# Altium integrated library TI_Logic_Specialty_Logic.IntLib: 2504 symbols (part 5 of 81)
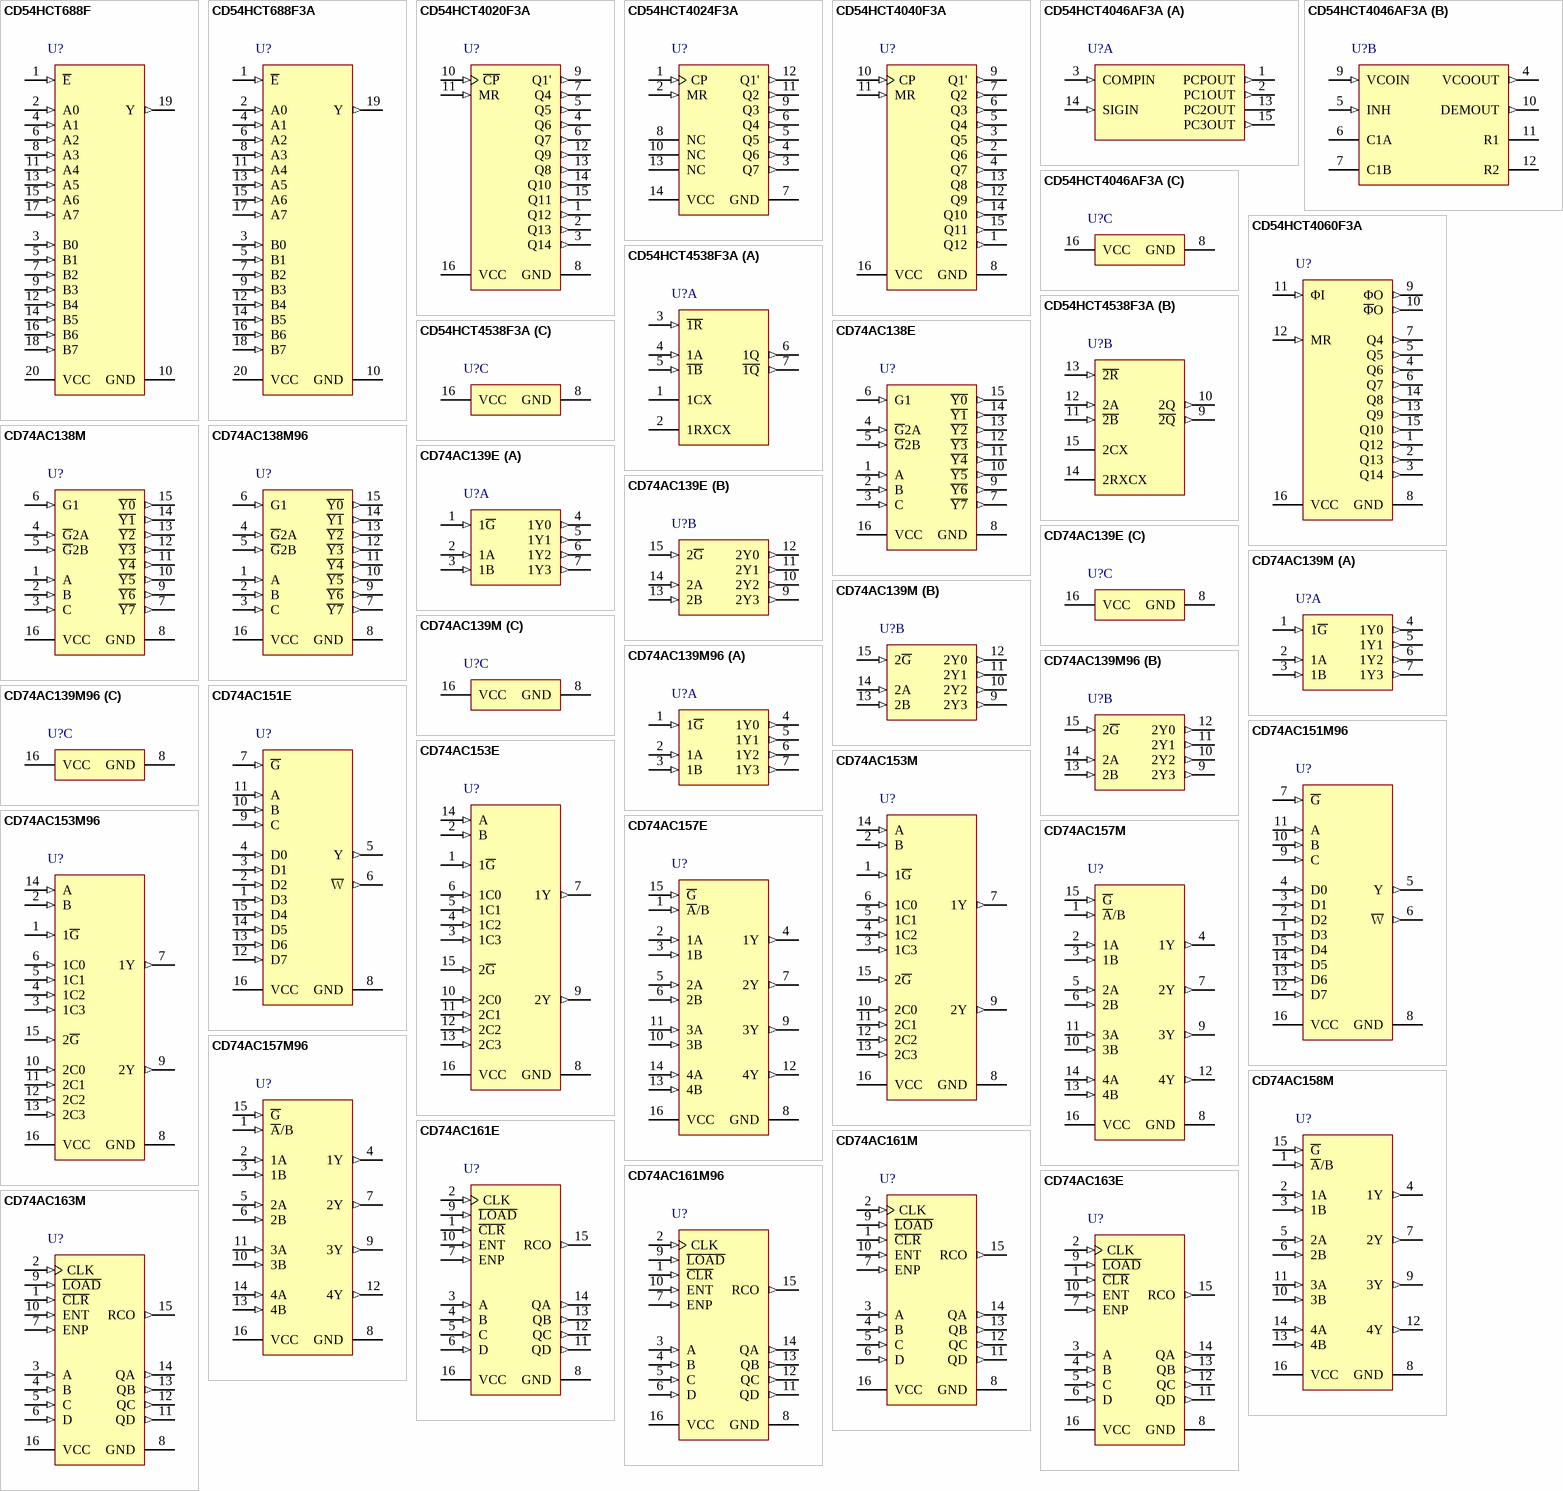
[diagram p108: symbols CD54HCT688F to CD74AC163M]

## CD54HCT4020F3A
designator U?
High Speed CMOS Logic 14-Stage Binary Counter, J0016A, TUBE; Generic Part Number: CD54HCT4020; Manufacturer: Texas Instruments; PartNumber: CD54HCT4020F3A; VCC(Min)(V): 4.5; VCC(Max)(V): 5.5; Inputs: 1; ICC @ Nom Voltage(Max)(mA): 0.08; Bits(#): 14; F @ Nom Voltage(Max)(Mhz): 25; Rating: Military; Technology Family: HCT; Output Drive (IOL/IOH)(Max)(mA): 4/-4; tpd @ Nom Voltage(Max)(ns): 50; DatasheetVersion: SCHS201C; PackageReference: J0016A; Function: Counter; Operating Temperature Range(C): -55 to 125; Type: Binary; ComponentLink1Description: Manufacturer URL; ComponentLink1URL: http://www.ti.com/; ComponentLink2Description: Datasheet; ComponentLink2URL: http://www.ti.com/lit/ds/symlink/cd54hct4020.pdf; ComponentLink3Description: Package Specification; ComponentLink3URL: http://www.ti.com/lit/ml/mcer002d/mcer002d.pdf
footprint J0016A (DIP, 16-Leads, Body 21.35x7.2mm, Pitch 2.54mm)
pins: 1 Q12 (out), 2 Q13 (out), 3 Q14 (out), 4 Q6 (out), 5 Q5 (out), 6 Q7 (out), 7 Q4 (out), 8 GND (power), 9 Q1' (out), 10 ~{CP} (in), 11 MR (in), 12 Q9 (out), 13 Q8 (out), 14 Q10 (out), 15 Q11 (out), 16 VCC (power)

## CD54HCT4024F3A
designator U?
High Speed CMOS Logic 7-Stage Binary Ripple Counter, J0014A, TUBE; Generic Part Number: CD54HCT4024; Manufacturer: Texas Instruments; PartNumber: CD54HCT4024F3A; VCC(Min)(V): 4.5; VCC(Max)(V): 5.5; Inputs: 1; ICC @ Nom Voltage(Max)(mA): 0.08; Bits(#): 7; F @ Nom Voltage(Max)(Mhz): 25; Rating: Military; Technology Family: HCT; Output Drive (IOL/IOH)(Max)(mA): 4/-4; tpd @ Nom Voltage(Max)(ns): 50; DatasheetVersion: SCHS202C; PackageReference: J0014A; Function: Counter; Operating Temperature Range(C): -55 to 125; Type: Binary; ComponentLink1Description: Manufacturer URL; ComponentLink1URL: http://www.ti.com/; ComponentLink2Description: Datasheet; ComponentLink2URL: http://www.ti.com/lit/ds/symlink/cd54hct4024.pdf; ComponentLink3Description: Package Specification; ComponentLink3URL: http://www.ti.com/lit/ml/mcer002d/mcer002d.pdf
footprint J0014A (DIP, 14-Leads, Body 19.95x7.2mm, Pitch 2.54mm)
pins: 1 CP (in), 2 MR (in), 3 Q7 (out), 4 Q6 (out), 5 Q5 (out), 6 Q4 (out), 7 GND (power), 8 NC, 9 Q3 (out), 10 NC, 11 Q2 (out), 12 Q1' (out), 13 NC, 14 VCC (power)

## CD54HCT4040F3A
designator U?
High Speed CMOS Logic 12-Stage Binary Counter, J0016A, TUBE; Generic Part Number: CD54HCT4040; Manufacturer: Texas Instruments; PartNumber: CD54HCT4040F3A; VCC(Min)(V): 4.5; VCC(Max)(V): 5.5; Inputs: 1; ICC @ Nom Voltage(Max)(mA): 0.08; Bits(#): 12; F @ Nom Voltage(Max)(Mhz): 25; Rating: Military; Technology Family: HCT; Output Drive (IOL/IOH)(Max)(mA): 4/-4; tpd @ Nom Voltage(Max)(ns): 50; DatasheetVersion: SCHS203D; PackageReference: J0016A; Function: Counter; Operating Temperature Range(C): -55 to 125; Type: Binary; ComponentLink1Description: Manufacturer URL; ComponentLink1URL: http://www.ti.com/; ComponentLink2Description: Datasheet; ComponentLink2URL: http://www.ti.com/lit/ds/symlink/cd54hct4040.pdf; ComponentLink3Description: Package Specification; ComponentLink3URL: http://www.ti.com/lit/ml/mcer002d/mcer002d.pdf
footprint J0016A (DIP, 16-Leads, Body 21.35x7.2mm, Pitch 2.54mm)
pins: 1 Q12 (out), 2 Q6 (out), 3 Q5 (out), 4 Q7 (out), 5 Q4 (out), 6 Q3 (out), 7 Q2 (out), 8 GND (power), 9 Q1' (out), 10 CP (in), 11 MR (in), 12 Q9 (out), 13 Q8 (out), 14 Q10 (out), 15 Q11 (out), 16 VCC (power)

## CD54HCT4046AF3A
designator U?
High Speed CMOS Logic Phase-Locked-Loop with VCO, J0016A, TUBE; Generic Part Number: CD54HCT4046A; Manufacturer: Texas Instruments; PartNumber: CD54HCT4046AF3A; VCC(Min)(V): 4.5; VCC(Max)(V): 5.5; ICC @ Nom Voltage(Max)(mA): 0.08; Input Type: TTL; Rating: Military; Technology Family: HCT; Output Drive (IOL/IOH)(Max)(mA): 4/-4; tpd @ Nom Voltage(Max)(ns): 85; DatasheetVersion: SCHS204J; PackageReference: J0016A; Output Type: CMOS; Operating Temperature Range(C): -55 to 125; Voltage(Nom)(V): 4.5; ComponentLink1Description: Manufacturer URL; ComponentLink1URL: http://www.ti.com/; ComponentLink2Description: Datasheet; ComponentLink2URL: http://www.ti.com/lit/ds/symlink/cd54hct4046a.pdf
footprint J0016A (DIP, 16-Leads, Body 21.35x7.2mm, Pitch 2.54mm)
part A pins: 1 PCPOUT (out) "Phase comparator pulse output", 2 PC1OUT (out) "Phase comparator 1 output", 3 COMPIN (in) "Comparator input", 13 PC2OUT (hiz) "Phase comparator 2 output", 14 SIGIN (in) "Signal input", 15 PC3OUT (out) "Phase comparator 3 output"
part B pins: 4 VCOOUT (out) "VCO output", 5 INH (in) "Inhibit input", 6 C1A "Capacitor C1 connection A", 7 C1B "Capacitor C1 connection B", 9 VCOIN (in) "VCO input", 10 DEMOUT (out) "Demodulator output", 11 R1 "Resistor R1 connection", 12 R2 "Resistor R2 connection"
part C pins: 8 GND (power) "Ground (0 V)", 16 VCC (power) "Positive supply voltage"

## CD54HCT4060F3A
designator U?
High Speed CMOS Logic 14-Stage Binary Counter with Oscillator, J0016A, TUBE; Generic Part Number: CD54HCT4060; Manufacturer: Texas Instruments; PartNumber: CD54HCT4060F3A; VCC(Min)(V): 4.5; VCC(Max)(V): 5.5; Inputs: 1; ICC @ Nom Voltage(Max)(mA): 0.08; Bits(#): 14; F @ Nom Voltage(Max)(Mhz): 25; Rating: Military; Technology Family: HCT; Output Drive (IOL/IOH)(Max)(mA): 4/-4; tpd @ Nom Voltage(Max)(ns): 84; DatasheetVersion: SCHS207G; PackageReference: J0016A; Function: Counter; Operating Temperature Range(C): -55 to 125; Type: Binary; ComponentLink1Description: Manufacturer URL; ComponentLink1URL: http://www.ti.com/; ComponentLink2Description: Datasheet; ComponentLink2URL: http://www.ti.com/lit/ds/symlink/cd54hct4060.pdf; ComponentLink3Description: Package Specification; ComponentLink3URL: http://www.ti.com/lit/ml/mcer002d/mcer002d.pdf
footprint J0016A (DIP, 16-Leads, Body 21.35x7.2mm, Pitch 2.54mm)
pins: 1 Q12 (out), 2 Q13 (out), 3 Q14 (out), 4 Q6 (out), 5 Q5 (out), 6 Q7 (out), 7 Q4 (out), 8 GND (power), 9 ΦO (out), 10 ~{Φ}O (out), 11 ΦI (in), 12 MR (in), 13 Q9 (out), 14 Q8 (out), 15 Q10 (out), 16 VCC (power)

## CD54HCT4538F3A
designator U?
High Speed CMOS Logic Dual Retriggerable Precision Monostable Multivibrator, J0016A, TUBE; Generic Part Number: CD54HCT4538; Manufacturer: Texas Instruments; PartNumber: CD54HCT4538F3A; Rating: Military; Technology Family: HCT; DatasheetVersion: SCHS123E; PackageReference: J0016A; Operating Temperature Range(C): -55 to 125; ComponentLink1Description: Manufacturer URL; ComponentLink1URL: http://www.ti.com/; ComponentLink2Description: Datasheet; ComponentLink2URL: http://www.ti.com/lit/ds/symlink/cd54hct4538.pdf; ComponentLink3Description: Package Specification; ComponentLink3URL: http://www.ti.com/lit/ml/mcer002d/mcer002d.pdf
footprint J0016A (DIP, 16-Leads, Body 21.35x7.2mm, Pitch 2.54mm)
part A pins: 1 1CX, 2 1RXCX, 3 ~{1R} (in), 4 1A (in), 5 ~{1B} (in), 6 1Q (out), 7 ~{1Q} (out)
part B pins: 9 ~{2Q} (out), 10 2Q (out), 11 ~{2B} (in), 12 2A (in), 13 ~{2R} (in), 14 2RXCX, 15 2CX
part C pins: 8 GND (power), 16 VCC (power)

## CD74AC138E
designator U?
3-Line to 8-Line Inverting Decoders/Demultiplexers, N0016A, TUBE; Generic Part Number: CD74AC138; Manufacturer: Texas Instruments; PartNumber: CD74AC138E; VCC(Min)(V): 1.5; VCC(Max)(V): 5.5; Output Type: CMOS; Function: Decoder/Demultiplexer; ICC @ Nom Voltage(Max)(mA): 0.08; Input Type: LVTTL/CMOS; Bits(#): 8; F @ Nom Voltage(Max)(Mhz): 100; Configuration: 3：8; Channels(#): 1; Rating: Catalog; Technology Family: AC; Voltage(Nom)(V): 1.5, 3.3,5; Schmitt Trigger: No; Output Drive (IOL/IOH)(Max)(mA): 24/-24; tpd @ Nom Voltage(Max)(ns): 138,15.4,11; DatasheetVersion: SCHS328A; PackageReference: N0016A; Supplier 1: Mouser; Supplier Part Number 1: 595-CD74AC138E; Supplier 2: Digi-Key; Supplier Part Number 2: 296-4225-5-ND; Operating Temperature Range(C): -55 to 125; Type: Standard; Code_JEDEC: MS-001; ComponentLink1Description: Manufacturer URL; ComponentLink1URL: http://www.ti.com/; ComponentLink2Description: Datasheet; ComponentLink2URL: http://www.ti.com/lit/ds/symlink/cd74ac138.pdf; ComponentLink3Description: Package Specification; ComponentLink3URL: http://www.ti.com/lit/ml/mpdi002c/mpdi002c.pdf
footprint N0016A (DIP, 16-Leads, Body 19.7x6.6mm, Pitch 2.54mm)
pins: 1 A (in), 2 B (in), 3 C (in), 4 ~{G}2A (in), 5 ~{G}2B (in), 6 G1 (in), 7 ~{Y7} (out), 8 GND (power), 9 ~{Y6} (out), 10 ~{Y5} (out), 11 ~{Y4} (out), 12 ~{Y3} (out), 13 ~{Y2} (out), 14 ~{Y1} (out), 15 ~{Y0} (out), 16 VCC (power)

## CD74AC138M
designator U?
3-Line to 8-Line Inverting Decoders/Demultiplexers, D0016A, TUBE; Generic Part Number: CD74AC138; Manufacturer: Texas Instruments; PartNumber: CD74AC138M; VCC(Min)(V): 1.5; VCC(Max)(V): 5.5; Output Type: CMOS; Function: Decoder/Demultiplexer; ICC @ Nom Voltage(Max)(mA): 0.08; Input Type: LVTTL/CMOS; Bits(#): 8; F @ Nom Voltage(Max)(Mhz): 100; Configuration: 3：8; Channels(#): 1; Rating: Catalog; Technology Family: AC; Voltage(Nom)(V): 1.5, 3.3,5; Schmitt Trigger: No; Output Drive (IOL/IOH)(Max)(mA): 24/-24; tpd @ Nom Voltage(Max)(ns): 138,15.4,11; DatasheetVersion: SCHS328A; PackageReference: D0016A; Supplier 1: Mouser; Supplier Part Number 1: 595-CD74AC138M; Supplier 2: Digi-Key; Supplier Part Number 2: 296-4226-5-ND; Operating Temperature Range(C): -55 to 125; Type: Standard; Code_JEDEC: MS-012 variation AC; ComponentLink1Description: Manufacturer URL; ComponentLink1URL: http://www.ti.com/; ComponentLink2Description: Datasheet; ComponentLink2URL: http://www.ti.com/lit/ds/symlink/cd74ac138.pdf; ComponentLink3Description: Package Specification; ComponentLink3URL: http://www.ti.com/lit/ml/mpds178g/mpds178g.pdf
footprint D0016A_N (SOIC, 16-Leads, Body 10x4mm, Pitch 1.27mm, IPC Medium Density)
footprint D0016A_M (SOIC, 16-Leads, Body 10x4mm, Pitch 1.27mm, IPC Low Density)
footprint D0016A_L (SOIC, 16-Leads, Body 10x4mm, Pitch 1.27mm, IPC High Density)
pins: 1 A (in), 2 B (in), 3 C (in), 4 ~{G}2A (in), 5 ~{G}2B (in), 6 G1 (in), 7 ~{Y7} (out), 8 GND (power), 9 ~{Y6} (out), 10 ~{Y5} (out), 11 ~{Y4} (out), 12 ~{Y3} (out), 13 ~{Y2} (out), 14 ~{Y1} (out), 15 ~{Y0} (out), 16 VCC (power)

## CD74AC138M96
designator U?
3-Line to 8-Line Inverting Decoders/Demultiplexers, D0016A, LARGE T&R; Generic Part Number: CD74AC138; Manufacturer: Texas Instruments; PartNumber: CD74AC138M96; VCC(Min)(V): 1.5; VCC(Max)(V): 5.5; Output Type: CMOS; Function: Decoder/Demultiplexer; ICC @ Nom Voltage(Max)(mA): 0.08; Input Type: LVTTL/CMOS; Bits(#): 8; F @ Nom Voltage(Max)(Mhz): 100; Configuration: 3：8; Channels(#): 1; Rating: Catalog; Technology Family: AC; Voltage(Nom)(V): 1.5, 3.3,5; Schmitt Trigger: No; Output Drive (IOL/IOH)(Max)(mA): 24/-24; tpd @ Nom Voltage(Max)(ns): 138,15.4,11; DatasheetVersion: SCHS328A; PackageReference: D0016A; Supplier 1: Mouser; Supplier Part Number 1: 595-CD74AC138M96; Supplier 2: Digi-Key; Supplier Part Number 2: 296-25961-2-ND; Supplier 3: Digi-Key; Supplier Part Number 3: 296-25961-1-ND; Supplier 4: Digi-Key; Supplier Part Number 4: 296-25961-6-ND; Operating Temperature Range(C): -55 to 125; Type: Standard; Code_JEDEC: MS-012 variation AC; ComponentLink1Description: Manufacturer URL; ComponentLink1URL: http://www.ti.com/; ComponentLink2Description: Datasheet; ComponentLink2URL: http://www.ti.com/lit/ds/symlink/cd74ac138.pdf; ComponentLink3Description: Package Specification; ComponentLink3URL: http://www.ti.com/lit/ml/mpds178g/mpds178g.pdf
footprint D0016A_N (SOIC, 16-Leads, Body 10x4mm, Pitch 1.27mm, IPC Medium Density)
footprint D0016A_M (SOIC, 16-Leads, Body 10x4mm, Pitch 1.27mm, IPC Low Density)
footprint D0016A_L (SOIC, 16-Leads, Body 10x4mm, Pitch 1.27mm, IPC High Density)
pins: 1 A (in), 2 B (in), 3 C (in), 4 ~{G}2A (in), 5 ~{G}2B (in), 6 G1 (in), 7 ~{Y7} (out), 8 GND (power), 9 ~{Y6} (out), 10 ~{Y5} (out), 11 ~{Y4} (out), 12 ~{Y3} (out), 13 ~{Y2} (out), 14 ~{Y1} (out), 15 ~{Y0} (out), 16 VCC (power)

## CD74AC139E
designator U?
Dual 2-to-4 Line Decoder/Demultiplexer, N0016A, TUBE; Generic Part Number: CD74AC139; Manufacturer: Texas Instruments; PartNumber: CD74AC139E; VCC(Min)(V): 1.5; VCC(Max)(V): 5.5; Output Type: CMOS; ICC @ Nom Voltage(Max)(mA): 0.08; Input Type: LVTTL/CMOS; Bits(#): 4; F @ Nom Voltage(Max)(Mhz): 100; Configuration: 2：4; Channels(#): 2; Rating: Catalog; Technology Family: AC; Voltage(Nom)(V): 1.5, 3.3,5; Schmitt Trigger: No; Output Drive (IOL/IOH)(Max)(mA): 24/-24; tpd @ Nom Voltage(Max)(ns): 131,14.7,10.5; DatasheetVersion: SCHS332; PackageReference: N0016A; Supplier 1: Mouser; Supplier Part Number 1: 595-CD74AC139E; Supplier 2: Digi-Key; Supplier Part Number 2: 296-32945-5-ND; Function: Decoder/Demultiplexer; Operating Temperature Range(C): -55 to 125; Type: Standard; Code_JEDEC: MS-001; ComponentLink1Description: Manufacturer URL; ComponentLink1URL: http://www.ti.com/; ComponentLink2Description: Datasheet; ComponentLink2URL: http://www.ti.com/lit/ds/symlink/cd74ac139.pdf; ComponentLink3Description: Package Specification; ComponentLink3URL: http://www.ti.com/lit/ml/mpdi002c/mpdi002c.pdf
footprint N0016A (DIP, 16-Leads, Body 19.7x6.6mm, Pitch 2.54mm)
part A pins: 1 1~{G} (in), 2 1A (in), 3 1B (in), 4 1Y0 (out), 5 1Y1 (out), 6 1Y2 (out), 7 1Y3 (out)
part B pins: 9 2Y3 (out), 10 2Y2 (out), 11 2Y1 (out), 12 2Y0 (out), 13 2B (in), 14 2A (in), 15 2~{G} (in)
part C pins: 8 GND (power), 16 VCC (power)

## CD74AC139M
designator U?
Dual 2-to-4 Line Decoder/Demultiplexer, D0016A, TUBE; Generic Part Number: CD74AC139; Manufacturer: Texas Instruments; PartNumber: CD74AC139M; VCC(Min)(V): 1.5; VCC(Max)(V): 5.5; Output Type: CMOS; ICC @ Nom Voltage(Max)(mA): 0.08; Input Type: LVTTL/CMOS; Bits(#): 4; F @ Nom Voltage(Max)(Mhz): 100; Configuration: 2：4; Channels(#): 2; Rating: Catalog; Technology Family: AC; Voltage(Nom)(V): 1.5, 3.3,5; Schmitt Trigger: No; Output Drive (IOL/IOH)(Max)(mA): 24/-24; tpd @ Nom Voltage(Max)(ns): 131,14.7,10.5; DatasheetVersion: SCHS332; PackageReference: D0016A; Supplier 1: Mouser; Supplier Part Number 1: 595-CD74AC139M; Supplier 2: Digi-Key; Supplier Part Number 2: 296-32946-5-ND; Function: Decoder/Demultiplexer; Operating Temperature Range(C): -55 to 125; Type: Standard; Code_JEDEC: MS-012 variation AC; ComponentLink1Description: Manufacturer URL; ComponentLink1URL: http://www.ti.com/; ComponentLink2Description: Datasheet; ComponentLink2URL: http://www.ti.com/lit/ds/symlink/cd74ac139.pdf; ComponentLink3Description: Package Specification; ComponentLink3URL: http://www.ti.com/lit/ml/mpds178g/mpds178g.pdf
footprint D0016A_N (SOIC, 16-Leads, Body 10x4mm, Pitch 1.27mm, IPC Medium Density)
footprint D0016A_M (SOIC, 16-Leads, Body 10x4mm, Pitch 1.27mm, IPC Low Density)
footprint D0016A_L (SOIC, 16-Leads, Body 10x4mm, Pitch 1.27mm, IPC High Density)
part A pins: 1 1~{G} (in), 2 1A (in), 3 1B (in), 4 1Y0 (out), 5 1Y1 (out), 6 1Y2 (out), 7 1Y3 (out)
part B pins: 9 2Y3 (out), 10 2Y2 (out), 11 2Y1 (out), 12 2Y0 (out), 13 2B (in), 14 2A (in), 15 2~{G} (in)
part C pins: 8 GND (power), 16 VCC (power)

## CD74AC139M96
designator U?
Dual 2-to-4 Line Decoder/Demultiplexer, D0016A, LARGE T&R; Generic Part Number: CD74AC139; Manufacturer: Texas Instruments; PartNumber: CD74AC139M96; VCC(Min)(V): 1.5; VCC(Max)(V): 5.5; Output Type: CMOS; ICC @ Nom Voltage(Max)(mA): 0.08; Input Type: LVTTL/CMOS; Bits(#): 4; F @ Nom Voltage(Max)(Mhz): 100; Configuration: 2：4; Channels(#): 2; Rating: Catalog; Technology Family: AC; Voltage(Nom)(V): 1.5, 3.3,5; Schmitt Trigger: No; Output Drive (IOL/IOH)(Max)(mA): 24/-24; tpd @ Nom Voltage(Max)(ns): 131,14.7,10.5; DatasheetVersion: SCHS332; PackageReference: D0016A; Supplier 1: Mouser; Supplier Part Number 1: 595-CD74AC139M96; Supplier 2: Digi-Key; Supplier Part Number 2: 296-4227-2-ND; Supplier 3: Digi-Key; Supplier Part Number 3: 296-4227-1-ND; Supplier 4: Digi-Key; Supplier Part Number 4: 296-4227-6-ND; Function: Decoder/Demultiplexer; Operating Temperature Range(C): -55 to 125; Type: Standard; Code_JEDEC: MS-012 variation AC; ComponentLink1Description: Manufacturer URL; ComponentLink1URL: http://www.ti.com/; ComponentLink2Description: Datasheet; ComponentLink2URL: http://www.ti.com/lit/ds/symlink/cd74ac139.pdf; ComponentLink3Description: Package Specification; ComponentLink3URL: http://www.ti.com/lit/ml/mpds178g/mpds178g.pdf
footprint D0016A_N (SOIC, 16-Leads, Body 10x4mm, Pitch 1.27mm, IPC Medium Density)
footprint D0016A_M (SOIC, 16-Leads, Body 10x4mm, Pitch 1.27mm, IPC Low Density)
footprint D0016A_L (SOIC, 16-Leads, Body 10x4mm, Pitch 1.27mm, IPC High Density)
part A pins: 1 1~{G} (in), 2 1A (in), 3 1B (in), 4 1Y0 (out), 5 1Y1 (out), 6 1Y2 (out), 7 1Y3 (out)
part B pins: 9 2Y3 (out), 10 2Y2 (out), 11 2Y1 (out), 12 2Y0 (out), 13 2B (in), 14 2A (in), 15 2~{G} (in)
part C pins: 8 GND (power), 16 VCC (power)

## CD74AC151E
designator U?
8-Input Multiplexer, N0016A, TUBE; Generic Part Number: CD74AC151; Manufacturer: Texas Instruments; PartNumber: CD74AC151E; VCC(Min)(V): 1.5; VCC(Max)(V): 5.5; Output Type: CMOS; Function: Encoder/Multiplexer; ICC @ Nom Voltage(Max)(mA): 0.08; Input Type: LVTTL/CMOS; Bits(#): 8; F @ Nom Voltage(Max)(Mhz): 100; Configuration: 8：1; Channels(#): 1; Rating: Catalog; Technology Family: AC; Voltage(Nom)(V): 1.5, 3.3,5; Schmitt Trigger: No; Output Drive (IOL/IOH)(Max)(mA): 24/-24; tpd @ Nom Voltage(Max)(ns): 169,18.9,13.5; DatasheetVersion: SCHS333; PackageReference: N0016A; Supplier 1: Mouser; Supplier Part Number 1: 595-CD74AC151E; Supplier 2: Digi-Key; Supplier Part Number 2: 296-32948-5-ND; Operating Temperature Range(C): -55 to 125; Type: Standard; Code_JEDEC: MS-001; ComponentLink1Description: Manufacturer URL; ComponentLink1URL: http://www.ti.com/; ComponentLink2Description: Datasheet; ComponentLink2URL: http://www.ti.com/lit/ds/symlink/cd74ac151.pdf; ComponentLink3Description: Package Specification; ComponentLink3URL: http://www.ti.com/lit/ml/mpdi002c/mpdi002c.pdf
footprint N0016A (DIP, 16-Leads, Body 19.7x6.6mm, Pitch 2.54mm)
pins: 1 D3 (in), 2 D2 (in), 3 D1 (in), 4 D0 (in), 5 Y (out), 6 ~{W} (out), 7 ~{G} (in), 8 GND (power), 9 C (in), 10 B (in), 11 A (in), 12 D7 (in), 13 D6 (in), 14 D5 (in), 15 D4 (in), 16 VCC (power)

## CD74AC151M96
designator U?
8-Input Multiplexer, D0016A, LARGE T&R; Generic Part Number: CD74AC151; Manufacturer: Texas Instruments; PartNumber: CD74AC151M96; VCC(Min)(V): 1.5; VCC(Max)(V): 5.5; Output Type: CMOS; Function: Encoder/Multiplexer; ICC @ Nom Voltage(Max)(mA): 0.08; Input Type: LVTTL/CMOS; Bits(#): 8; F @ Nom Voltage(Max)(Mhz): 100; Configuration: 8：1; Channels(#): 1; Rating: Catalog; Technology Family: AC; Voltage(Nom)(V): 1.5, 3.3,5; Schmitt Trigger: No; Output Drive (IOL/IOH)(Max)(mA): 24/-24; tpd @ Nom Voltage(Max)(ns): 169,18.9,13.5; DatasheetVersion: SCHS333; PackageReference: D0016A; Supplier 1: Mouser; Supplier Part Number 1: 595-CD74AC151M96; Supplier 2: Digi-Key; Supplier Part Number 2: 296-4228-2-ND; Supplier 3: Digi-Key; Supplier Part Number 3: 296-4228-1-ND; Supplier 4: Digi-Key; Supplier Part Number 4: 296-4228-6-ND; Operating Temperature Range(C): -55 to 125; Type: Standard; Code_JEDEC: MS-012 variation AC; ComponentLink1Description: Manufacturer URL; ComponentLink1URL: http://www.ti.com/; ComponentLink2Description: Datasheet; ComponentLink2URL: http://www.ti.com/lit/ds/symlink/cd74ac151.pdf; ComponentLink3Description: Package Specification; ComponentLink3URL: http://www.ti.com/lit/ml/mpds178g/mpds178g.pdf
footprint D0016A_N (SOIC, 16-Leads, Body 10x4mm, Pitch 1.27mm, IPC Medium Density)
footprint D0016A_M (SOIC, 16-Leads, Body 10x4mm, Pitch 1.27mm, IPC Low Density)
footprint D0016A_L (SOIC, 16-Leads, Body 10x4mm, Pitch 1.27mm, IPC High Density)
pins: 1 D3 (in), 2 D2 (in), 3 D1 (in), 4 D0 (in), 5 Y (out), 6 ~{W} (out), 7 ~{G} (in), 8 GND (power), 9 C (in), 10 B (in), 11 A (in), 12 D7 (in), 13 D6 (in), 14 D5 (in), 15 D4 (in), 16 VCC (power)

## CD74AC153E
designator U?
Dual 4-Input Multiplexers, N0016A, TUBE; Generic Part Number: CD74AC153; Manufacturer: Texas Instruments; PartNumber: CD74AC153E; VCC(Min)(V): 1.5; VCC(Max)(V): 5.5; Output Type: CMOS; Function: Encoder/Multiplexer; ICC @ Nom Voltage(Max)(mA): 0.08; Input Type: LVTTL/CMOS; Bits(#): 4; F @ Nom Voltage(Max)(Mhz): 100; Configuration: 4：1; Channels(#): 2; Rating: Catalog; Technology Family: AC; Voltage(Nom)(V): 1.5, 3.3,5; Schmitt Trigger: No; Output Drive (IOL/IOH)(Max)(mA): 24/-24; tpd @ Nom Voltage(Max)(ns): 250,28,20; DatasheetVersion: SCHS334A; PackageReference: N0016A; Supplier 1: Mouser; Supplier Part Number 1: 595-CD74AC153E; Supplier 2: Digi-Key; Supplier Part Number 2: 296-32949-5-ND; Operating Temperature Range(C): -55 to 125; Type: Standard; Code_JEDEC: MS-001; ComponentLink1Description: Manufacturer URL; ComponentLink1URL: http://www.ti.com/; ComponentLink2Description: Datasheet; ComponentLink2URL: http://www.ti.com/lit/ds/symlink/cd74ac153.pdf; ComponentLink3Description: Package Specification; ComponentLink3URL: http://www.ti.com/lit/ml/mpdi002c/mpdi002c.pdf
footprint N0016A (DIP, 16-Leads, Body 19.7x6.6mm, Pitch 2.54mm)
pins: 1 1~{G} (in), 2 B (in), 3 1C3 (in), 4 1C2 (in), 5 1C1 (in), 6 1C0 (in), 7 1Y (out), 8 GND (power), 9 2Y (out), 10 2C0 (in), 11 2C1 (in), 12 2C2 (in), 13 2C3 (in), 14 A (in), 15 2~{G} (in), 16 VCC (power)

## CD74AC153M
designator U?
Dual 4-Input Multiplexers, D0016A, TUBE; Generic Part Number: CD74AC153; Manufacturer: Texas Instruments; PartNumber: CD74AC153M; VCC(Min)(V): 1.5; VCC(Max)(V): 5.5; Output Type: CMOS; Function: Encoder/Multiplexer; ICC @ Nom Voltage(Max)(mA): 0.08; Input Type: LVTTL/CMOS; Bits(#): 4; F @ Nom Voltage(Max)(Mhz): 100; Configuration: 4：1; Channels(#): 2; Rating: Catalog; Technology Family: AC; Voltage(Nom)(V): 1.5, 3.3,5; Schmitt Trigger: No; Output Drive (IOL/IOH)(Max)(mA): 24/-24; tpd @ Nom Voltage(Max)(ns): 250,28,20; DatasheetVersion: SCHS334A; PackageReference: D0016A; Supplier 1: Mouser; Supplier Part Number 1: 595-CD74AC153M; Supplier 2: Digi-Key; Supplier Part Number 2: 296-32950-5-ND; Operating Temperature Range(C): -55 to 125; Type: Standard; Code_JEDEC: MS-012 variation AC; ComponentLink1Description: Manufacturer URL; ComponentLink1URL: http://www.ti.com/; ComponentLink2Description: Datasheet; ComponentLink2URL: http://www.ti.com/lit/ds/symlink/cd74ac153.pdf; ComponentLink3Description: Package Specification; ComponentLink3URL: http://www.ti.com/lit/ml/mpds178g/mpds178g.pdf
footprint D0016A_N (SOIC, 16-Leads, Body 10x4mm, Pitch 1.27mm, IPC Medium Density)
footprint D0016A_M (SOIC, 16-Leads, Body 10x4mm, Pitch 1.27mm, IPC Low Density)
footprint D0016A_L (SOIC, 16-Leads, Body 10x4mm, Pitch 1.27mm, IPC High Density)
pins: 1 1~{G} (in), 2 B (in), 3 1C3 (in), 4 1C2 (in), 5 1C1 (in), 6 1C0 (in), 7 1Y (out), 8 GND (power), 9 2Y (out), 10 2C0 (in), 11 2C1 (in), 12 2C2 (in), 13 2C3 (in), 14 A (in), 15 2~{G} (in), 16 VCC (power)

## CD74AC153M96
designator U?
Dual 4-Input Multiplexers, D0016A, LARGE T&R; Generic Part Number: CD74AC153; Manufacturer: Texas Instruments; PartNumber: CD74AC153M96; VCC(Min)(V): 1.5; VCC(Max)(V): 5.5; Output Type: CMOS; Function: Encoder/Multiplexer; ICC @ Nom Voltage(Max)(mA): 0.08; Input Type: LVTTL/CMOS; Bits(#): 4; F @ Nom Voltage(Max)(Mhz): 100; Configuration: 4：1; Channels(#): 2; Rating: Catalog; Technology Family: AC; Voltage(Nom)(V): 1.5, 3.3,5; Schmitt Trigger: No; Output Drive (IOL/IOH)(Max)(mA): 24/-24; tpd @ Nom Voltage(Max)(ns): 250,28,20; DatasheetVersion: SCHS334A; PackageReference: D0016A; Supplier 1: Mouser; Supplier Part Number 1: 595-CD74AC153M96; Supplier 2: Digi-Key; Supplier Part Number 2: 296-4229-2-ND; Supplier 3: Digi-Key; Supplier Part Number 3: 296-4229-1-ND; Supplier 4: Digi-Key; Supplier Part Number 4: 296-4229-6-ND; Operating Temperature Range(C): -55 to 125; Type: Standard; Code_JEDEC: MS-012 variation AC; ComponentLink1Description: Manufacturer URL; ComponentLink1URL: http://www.ti.com/; ComponentLink2Description: Datasheet; ComponentLink2URL: http://www.ti.com/lit/ds/symlink/cd74ac153.pdf; ComponentLink3Description: Package Specification; ComponentLink3URL: http://www.ti.com/lit/ml/mpds178g/mpds178g.pdf
footprint D0016A_N (SOIC, 16-Leads, Body 10x4mm, Pitch 1.27mm, IPC Medium Density)
footprint D0016A_M (SOIC, 16-Leads, Body 10x4mm, Pitch 1.27mm, IPC Low Density)
footprint D0016A_L (SOIC, 16-Leads, Body 10x4mm, Pitch 1.27mm, IPC High Density)
pins: 1 1~{G} (in), 2 B (in), 3 1C3 (in), 4 1C2 (in), 5 1C1 (in), 6 1C0 (in), 7 1Y (out), 8 GND (power), 9 2Y (out), 10 2C0 (in), 11 2C1 (in), 12 2C2 (in), 13 2C3 (in), 14 A (in), 15 2~{G} (in), 16 VCC (power)

## CD74AC157E
designator U?
Quad 2-Input Non-Inverting Multiplexers, N0016A, TUBE; Generic Part Number: CD74AC157; Manufacturer: Texas Instruments; PartNumber: CD74AC157E; VCC(Min)(V): 1.5; VCC(Max)(V): 5.5; Output Type: CMOS; Function: Encoder/Multiplexer; ICC @ Nom Voltage(Max)(mA): 0.08; Input Type: LVTTL/CMOS; Bits(#): 2; F @ Nom Voltage(Max)(Mhz): 100; Configuration: 2：1; Channels(#): 4; Rating: Catalog; Technology Family: AC; Voltage(Nom)(V): 1.5, 3.3,5; Schmitt Trigger: No; Output Drive (IOL/IOH)(Max)(mA): 24/-24; tpd @ Nom Voltage(Max)(ns): 106,11.9,8.5; DatasheetVersion: SCHS335; PackageReference: N0016A; Supplier 1: Mouser; Supplier Part Number 1: 595-CD74AC157E; Supplier 2: Digi-Key; Supplier Part Number 2: 296-4230-5-ND; Operating Temperature Range(C): -55 to 125; Type: Standard; Code_JEDEC: MS-001; ComponentLink1Description: Manufacturer URL; ComponentLink1URL: http://www.ti.com/; ComponentLink2Description: Datasheet; ComponentLink2URL: http://www.ti.com/lit/ds/symlink/cd74ac157.pdf; ComponentLink3Description: Package Specification; ComponentLink3URL: http://www.ti.com/lit/ml/mpdi002c/mpdi002c.pdf
footprint N0016A (DIP, 16-Leads, Body 19.7x6.6mm, Pitch 2.54mm)
pins: 1 ~{A}/B (in), 2 1A (in), 3 1B (in), 4 1Y (out), 5 2A (in), 6 2B (in), 7 2Y (out), 8 GND (power), 9 3Y (out), 10 3B (in), 11 3A (in), 12 4Y (out), 13 4B (in), 14 4A (in), 15 ~{G} (in), 16 VCC (power)

## CD74AC157M
designator U?
Quad 2-Input Non-Inverting Multiplexers, D0016A, TUBE; Generic Part Number: CD74AC157; Manufacturer: Texas Instruments; PartNumber: CD74AC157M; VCC(Min)(V): 1.5; VCC(Max)(V): 5.5; Output Type: CMOS; Function: Encoder/Multiplexer; ICC @ Nom Voltage(Max)(mA): 0.08; Input Type: LVTTL/CMOS; Bits(#): 2; F @ Nom Voltage(Max)(Mhz): 100; Configuration: 2：1; Channels(#): 4; Rating: Catalog; Technology Family: AC; Voltage(Nom)(V): 1.5, 3.3,5; Schmitt Trigger: No; Output Drive (IOL/IOH)(Max)(mA): 24/-24; tpd @ Nom Voltage(Max)(ns): 106,11.9,8.5; DatasheetVersion: SCHS335; PackageReference: D0016A; Supplier 1: Mouser; Supplier Part Number 1: 595-CD74AC157M; Supplier 2: Digi-Key; Supplier Part Number 2: 296-4231-5-ND; Operating Temperature Range(C): -55 to 125; Type: Standard; Code_JEDEC: MS-012 variation AC; ComponentLink1Description: Manufacturer URL; ComponentLink1URL: http://www.ti.com/; ComponentLink2Description: Datasheet; ComponentLink2URL: http://www.ti.com/lit/ds/symlink/cd74ac157.pdf; ComponentLink3Description: Package Specification; ComponentLink3URL: http://www.ti.com/lit/ml/mpds178g/mpds178g.pdf
footprint D0016A_N (SOIC, 16-Leads, Body 10x4mm, Pitch 1.27mm, IPC Medium Density)
footprint D0016A_M (SOIC, 16-Leads, Body 10x4mm, Pitch 1.27mm, IPC Low Density)
footprint D0016A_L (SOIC, 16-Leads, Body 10x4mm, Pitch 1.27mm, IPC High Density)
pins: 1 ~{A}/B (in), 2 1A (in), 3 1B (in), 4 1Y (out), 5 2A (in), 6 2B (in), 7 2Y (out), 8 GND (power), 9 3Y (out), 10 3B (in), 11 3A (in), 12 4Y (out), 13 4B (in), 14 4A (in), 15 ~{G} (in), 16 VCC (power)

## CD74AC157M96
designator U?
Quad 2-Input Non-Inverting Multiplexers, D0016A, LARGE T&R; Generic Part Number: CD74AC157; Manufacturer: Texas Instruments; PartNumber: CD74AC157M96; VCC(Min)(V): 1.5; VCC(Max)(V): 5.5; Output Type: CMOS; Function: Encoder/Multiplexer; ICC @ Nom Voltage(Max)(mA): 0.08; Input Type: LVTTL/CMOS; Bits(#): 2; F @ Nom Voltage(Max)(Mhz): 100; Configuration: 2：1; Channels(#): 4; Rating: Catalog; Technology Family: AC; Voltage(Nom)(V): 1.5, 3.3,5; Schmitt Trigger: No; Output Drive (IOL/IOH)(Max)(mA): 24/-24; tpd @ Nom Voltage(Max)(ns): 106,11.9,8.5; DatasheetVersion: SCHS335; PackageReference: D0016A; Supplier 1: Mouser; Supplier Part Number 1: 595-CD74AC157M96; Supplier 2: Digi-Key; Supplier Part Number 2: CD74AC157M96-ND; Operating Temperature Range(C): -55 to 125; Type: Standard; Code_JEDEC: MS-012 variation AC; ComponentLink1Description: Manufacturer URL; ComponentLink1URL: http://www.ti.com/; ComponentLink2Description: Datasheet; ComponentLink2URL: http://www.ti.com/lit/ds/symlink/cd74ac157.pdf; ComponentLink3Description: Package Specification; ComponentLink3URL: http://www.ti.com/lit/ml/mpds178g/mpds178g.pdf
footprint D0016A_N (SOIC, 16-Leads, Body 10x4mm, Pitch 1.27mm, IPC Medium Density)
footprint D0016A_M (SOIC, 16-Leads, Body 10x4mm, Pitch 1.27mm, IPC Low Density)
footprint D0016A_L (SOIC, 16-Leads, Body 10x4mm, Pitch 1.27mm, IPC High Density)
pins: 1 ~{A}/B (in), 2 1A (in), 3 1B (in), 4 1Y (out), 5 2A (in), 6 2B (in), 7 2Y (out), 8 GND (power), 9 3Y (out), 10 3B (in), 11 3A (in), 12 4Y (out), 13 4B (in), 14 4A (in), 15 ~{G} (in), 16 VCC (power)

## CD74AC158M
designator U?
Quad 2-Input Inverting Multiplexers, D0016A, TUBE; Generic Part Number: CD74AC158; Manufacturer: Texas Instruments; PartNumber: CD74AC158M; VCC(Min)(V): 1.5; VCC(Max)(V): 5.5; Output Type: CMOS; Function: Encoder/Multiplexer; ICC @ Nom Voltage(Max)(mA): 0.08; Input Type: LVTTL/CMOS; Bits(#): 2; F @ Nom Voltage(Max)(Mhz): 100; Configuration: 2：1; Channels(#): 4; Rating: Catalog; Technology Family: AC; Voltage(Nom)(V): 1.5, 3.3,5; Schmitt Trigger: No; Output Drive (IOL/IOH)(Max)(mA): 24/-24; tpd @ Nom Voltage(Max)(ns): 100,11.2,8; DatasheetVersion: SCHS336; PackageReference: D0016A; Supplier 1: Mouser; Supplier Part Number 1: 595-CD74AC158M; Supplier 2: Digi-Key; Supplier Part Number 2: CD74AC158M-ND; Operating Temperature Range(C): -55 to 125; Type: Standard; Code_JEDEC: MS-012 variation AC; ComponentLink1Description: Manufacturer URL; ComponentLink1URL: http://www.ti.com/; ComponentLink2Description: Datasheet; ComponentLink2URL: http://www.ti.com/lit/ds/symlink/cd74ac158.pdf; ComponentLink3Description: Package Specification; ComponentLink3URL: http://www.ti.com/lit/ml/mpds178g/mpds178g.pdf
footprint D0016A_N (SOIC, 16-Leads, Body 10x4mm, Pitch 1.27mm, IPC Medium Density)
footprint D0016A_M (SOIC, 16-Leads, Body 10x4mm, Pitch 1.27mm, IPC Low Density)
footprint D0016A_L (SOIC, 16-Leads, Body 10x4mm, Pitch 1.27mm, IPC High Density)
pins: 1 ~{A}/B (in), 2 1A (in), 3 1B (in), 4 1Y (out), 5 2A (in), 6 2B (in), 7 2Y (out), 8 GND (power), 9 3Y (out), 10 3B (in), 11 3A (in), 12 4Y (out), 13 4B (in), 14 4A (in), 15 ~{G} (in), 16 VCC (power)

## CD74AC161E
designator U?
Synchronous Presettable Binary Counters with Asynchronous Reset, N0016A, TUBE; Generic Part Number: CD74AC161; Manufacturer: Texas Instruments; PartNumber: CD74AC161E; VCC(Min)(V): 1.5; VCC(Max)(V): 5.5; Output Type: CMOS; Inputs: 4; ICC @ Nom Voltage(Max)(mA): 0.08; Input Type: LVTTL/CMOS; F @ Nom Voltage(Max)(Mhz): 100; Rating: Catalog; Technology Family: AC; Voltage(Nom)(V): 3.3,5; Schmitt Trigger: No; Output Drive (IOL/IOH)(Max)(mA): 24/-24; tpd @ Nom Voltage(Max)(ns): 15; DatasheetVersion: SCHS239C; PackageReference: N0016A; Supplier 1: Mouser; Supplier Part Number 1: 595-CD74AC161E; Supplier 2: Digi-Key; Supplier Part Number 2: 296-32951-5-ND; Function: Counter; Bits(#): 4; Operating Temperature Range(C): -55 to 125; Type: Binary; Code_JEDEC: MS-001; ComponentLink1Description: Manufacturer URL; ComponentLink1URL: http://www.ti.com/; ComponentLink2Description: Datasheet; ComponentLink2URL: http://www.ti.com/lit/ds/symlink/cd74ac161.pdf; ComponentLink3Description: Package Specification; ComponentLink3URL: http://www.ti.com/lit/ml/mpdi002c/mpdi002c.pdf
footprint N0016A (DIP, 16-Leads, Body 19.7x6.6mm, Pitch 2.54mm)
pins: 1 ~{CLR} (in), 2 CLK (in), 3 A (in), 4 B (in), 5 C (in), 6 D (in), 7 ENP (in), 8 GND (power), 9 ~{LOAD} (in), 10 ENT (in), 11 QD (out), 12 QC (out), 13 QB (out), 14 QA (out), 15 RCO (out), 16 VCC (power)

## CD74AC161M
designator U?
Synchronous Presettable Binary Counters with Asynchronous Reset, D0016A, TUBE; Generic Part Number: CD74AC161; Manufacturer: Texas Instruments; PartNumber: CD74AC161M; VCC(Min)(V): 1.5; VCC(Max)(V): 5.5; Output Type: CMOS; Inputs: 4; ICC @ Nom Voltage(Max)(mA): 0.08; Input Type: LVTTL/CMOS; F @ Nom Voltage(Max)(Mhz): 100; Rating: Catalog; Technology Family: AC; Voltage(Nom)(V): 3.3,5; Schmitt Trigger: No; Output Drive (IOL/IOH)(Max)(mA): 24/-24; tpd @ Nom Voltage(Max)(ns): 15; DatasheetVersion: SCHS239C; PackageReference: D0016A; Supplier 1: Mouser; Supplier Part Number 1: 595-CD74AC161M; Supplier 2: Digi-Key; Supplier Part Number 2: 296-4232-5-ND; Function: Counter; Bits(#): 4; Operating Temperature Range(C): -55 to 125; Type: Binary; Code_JEDEC: MS-012 variation AC; ComponentLink1Description: Manufacturer URL; ComponentLink1URL: http://www.ti.com/; ComponentLink2Description: Datasheet; ComponentLink2URL: http://www.ti.com/lit/ds/symlink/cd74ac161.pdf; ComponentLink3Description: Package Specification; ComponentLink3URL: http://www.ti.com/lit/ml/mpds178g/mpds178g.pdf
footprint D0016A_N (SOIC, 16-Leads, Body 10x4mm, Pitch 1.27mm, IPC Medium Density)
footprint D0016A_M (SOIC, 16-Leads, Body 10x4mm, Pitch 1.27mm, IPC Low Density)
footprint D0016A_L (SOIC, 16-Leads, Body 10x4mm, Pitch 1.27mm, IPC High Density)
pins: 1 ~{CLR} (in), 2 CLK (in), 3 A (in), 4 B (in), 5 C (in), 6 D (in), 7 ENP (in), 8 GND (power), 9 ~{LOAD} (in), 10 ENT (in), 11 QD (out), 12 QC (out), 13 QB (out), 14 QA (out), 15 RCO (out), 16 VCC (power)

## CD74AC161M96
designator U?
Synchronous Presettable Binary Counters with Asynchronous Reset, D0016A, LARGE T&R; Generic Part Number: CD74AC161; Manufacturer: Texas Instruments; PartNumber: CD74AC161M96; VCC(Min)(V): 1.5; VCC(Max)(V): 5.5; Output Type: CMOS; Inputs: 4; ICC @ Nom Voltage(Max)(mA): 0.08; Input Type: LVTTL/CMOS; F @ Nom Voltage(Max)(Mhz): 100; Rating: Catalog; Technology Family: AC; Voltage(Nom)(V): 3.3,5; Schmitt Trigger: No; Output Drive (IOL/IOH)(Max)(mA): 24/-24; tpd @ Nom Voltage(Max)(ns): 15; DatasheetVersion: SCHS239C; PackageReference: D0016A; Supplier 1: Mouser; Supplier Part Number 1: 595-CD74AC161M96; Supplier 2: Digi-Key; Supplier Part Number 2: 296-25962-2-ND; Supplier 3: Digi-Key; Supplier Part Number 3: 296-25962-1-ND; Supplier 4: Digi-Key; Supplier Part Number 4: 296-25962-6-ND; Function: Counter; Bits(#): 4; Operating Temperature Range(C): -55 to 125; Type: Binary; Code_JEDEC: MS-012 variation AC; ComponentLink1Description: Manufacturer URL; ComponentLink1URL: http://www.ti.com/; ComponentLink2Description: Datasheet; ComponentLink2URL: http://www.ti.com/lit/ds/symlink/cd74ac161.pdf; ComponentLink3Description: Package Specification; ComponentLink3URL: http://www.ti.com/lit/ml/mpds178g/mpds178g.pdf
footprint D0016A_N (SOIC, 16-Leads, Body 10x4mm, Pitch 1.27mm, IPC Medium Density)
footprint D0016A_M (SOIC, 16-Leads, Body 10x4mm, Pitch 1.27mm, IPC Low Density)
footprint D0016A_L (SOIC, 16-Leads, Body 10x4mm, Pitch 1.27mm, IPC High Density)
pins: 1 ~{CLR} (in), 2 CLK (in), 3 A (in), 4 B (in), 5 C (in), 6 D (in), 7 ENP (in), 8 GND (power), 9 ~{LOAD} (in), 10 ENT (in), 11 QD (out), 12 QC (out), 13 QB (out), 14 QA (out), 15 RCO (out), 16 VCC (power)

## CD74AC163E
designator U?
Synchronous Presettable Binary Counters with Synchronous Reset, N0016A, TUBE; Generic Part Number: CD74AC163; Manufacturer: Texas Instruments; PartNumber: CD74AC163E; VCC(Min)(V): 1.5; VCC(Max)(V): 5.5; Output Type: CMOS; Inputs: 4; ICC @ Nom Voltage(Max)(mA): 0.08; Input Type: LVTTL/CMOS; F @ Nom Voltage(Max)(Mhz): 100; Rating: Catalog; Technology Family: AC; Voltage(Nom)(V): 3.3,5; Schmitt Trigger: No; Output Drive (IOL/IOH)(Max)(mA): 24/-24; tpd @ Nom Voltage(Max)(ns): 15; DatasheetVersion: SCHS299B; PackageReference: N0016A; Supplier 1: Mouser; Supplier Part Number 1: 595-CD74AC163E; Supplier 2: Digi-Key; Supplier Part Number 2: 296-4233-5-ND; Function: Counter; Bits(#): 4; Operating Temperature Range(C): -55 to 125; Type: Binary; Code_JEDEC: MS-001; ComponentLink1Description: Manufacturer URL; ComponentLink1URL: http://www.ti.com/; ComponentLink2Description: Datasheet; ComponentLink2URL: http://www.ti.com/lit/ds/symlink/cd74ac163.pdf; ComponentLink3Description: Package Specification; ComponentLink3URL: http://www.ti.com/lit/ml/mpdi002c/mpdi002c.pdf
footprint N0016A (DIP, 16-Leads, Body 19.7x6.6mm, Pitch 2.54mm)
pins: 1 ~{CLR} (in), 2 CLK (in), 3 A (in), 4 B (in), 5 C (in), 6 D (in), 7 ENP (in), 8 GND (power), 9 ~{LOAD} (in), 10 ENT (in), 11 QD (out), 12 QC (out), 13 QB (out), 14 QA (out), 15 RCO (out), 16 VCC (power)

## CD74AC163M
designator U?
Synchronous Presettable Binary Counters with Synchronous Reset, D0016A, TUBE; Generic Part Number: CD74AC163; Manufacturer: Texas Instruments; PartNumber: CD74AC163M; VCC(Min)(V): 1.5; VCC(Max)(V): 5.5; Output Type: CMOS; Inputs: 4; ICC @ Nom Voltage(Max)(mA): 0.08; Input Type: LVTTL/CMOS; F @ Nom Voltage(Max)(Mhz): 100; Rating: Catalog; Technology Family: AC; Voltage(Nom)(V): 3.3,5; Schmitt Trigger: No; Output Drive (IOL/IOH)(Max)(mA): 24/-24; tpd @ Nom Voltage(Max)(ns): 15; DatasheetVersion: SCHS299B; PackageReference: D0016A; Supplier 1: Mouser; Supplier Part Number 1: 595-CD74AC163M; Supplier 2: Digi-Key; Supplier Part Number 2: 296-32952-5-ND; Function: Counter; Bits(#): 4; Operating Temperature Range(C): -55 to 125; Type: Binary; Code_JEDEC: MS-012 variation AC; ComponentLink1Description: Manufacturer URL; ComponentLink1URL: http://www.ti.com/; ComponentLink2Description: Datasheet; ComponentLink2URL: http://www.ti.com/lit/ds/symlink/cd74ac163.pdf; ComponentLink3Description: Package Specification; ComponentLink3URL: http://www.ti.com/lit/ml/mpds178g/mpds178g.pdf
footprint D0016A_N (SOIC, 16-Leads, Body 10x4mm, Pitch 1.27mm, IPC Medium Density)
footprint D0016A_M (SOIC, 16-Leads, Body 10x4mm, Pitch 1.27mm, IPC Low Density)
footprint D0016A_L (SOIC, 16-Leads, Body 10x4mm, Pitch 1.27mm, IPC High Density)
pins: 1 ~{CLR} (in), 2 CLK (in), 3 A (in), 4 B (in), 5 C (in), 6 D (in), 7 ENP (in), 8 GND (power), 9 ~{LOAD} (in), 10 ENT (in), 11 QD (out), 12 QC (out), 13 QB (out), 14 QA (out), 15 RCO (out), 16 VCC (power)

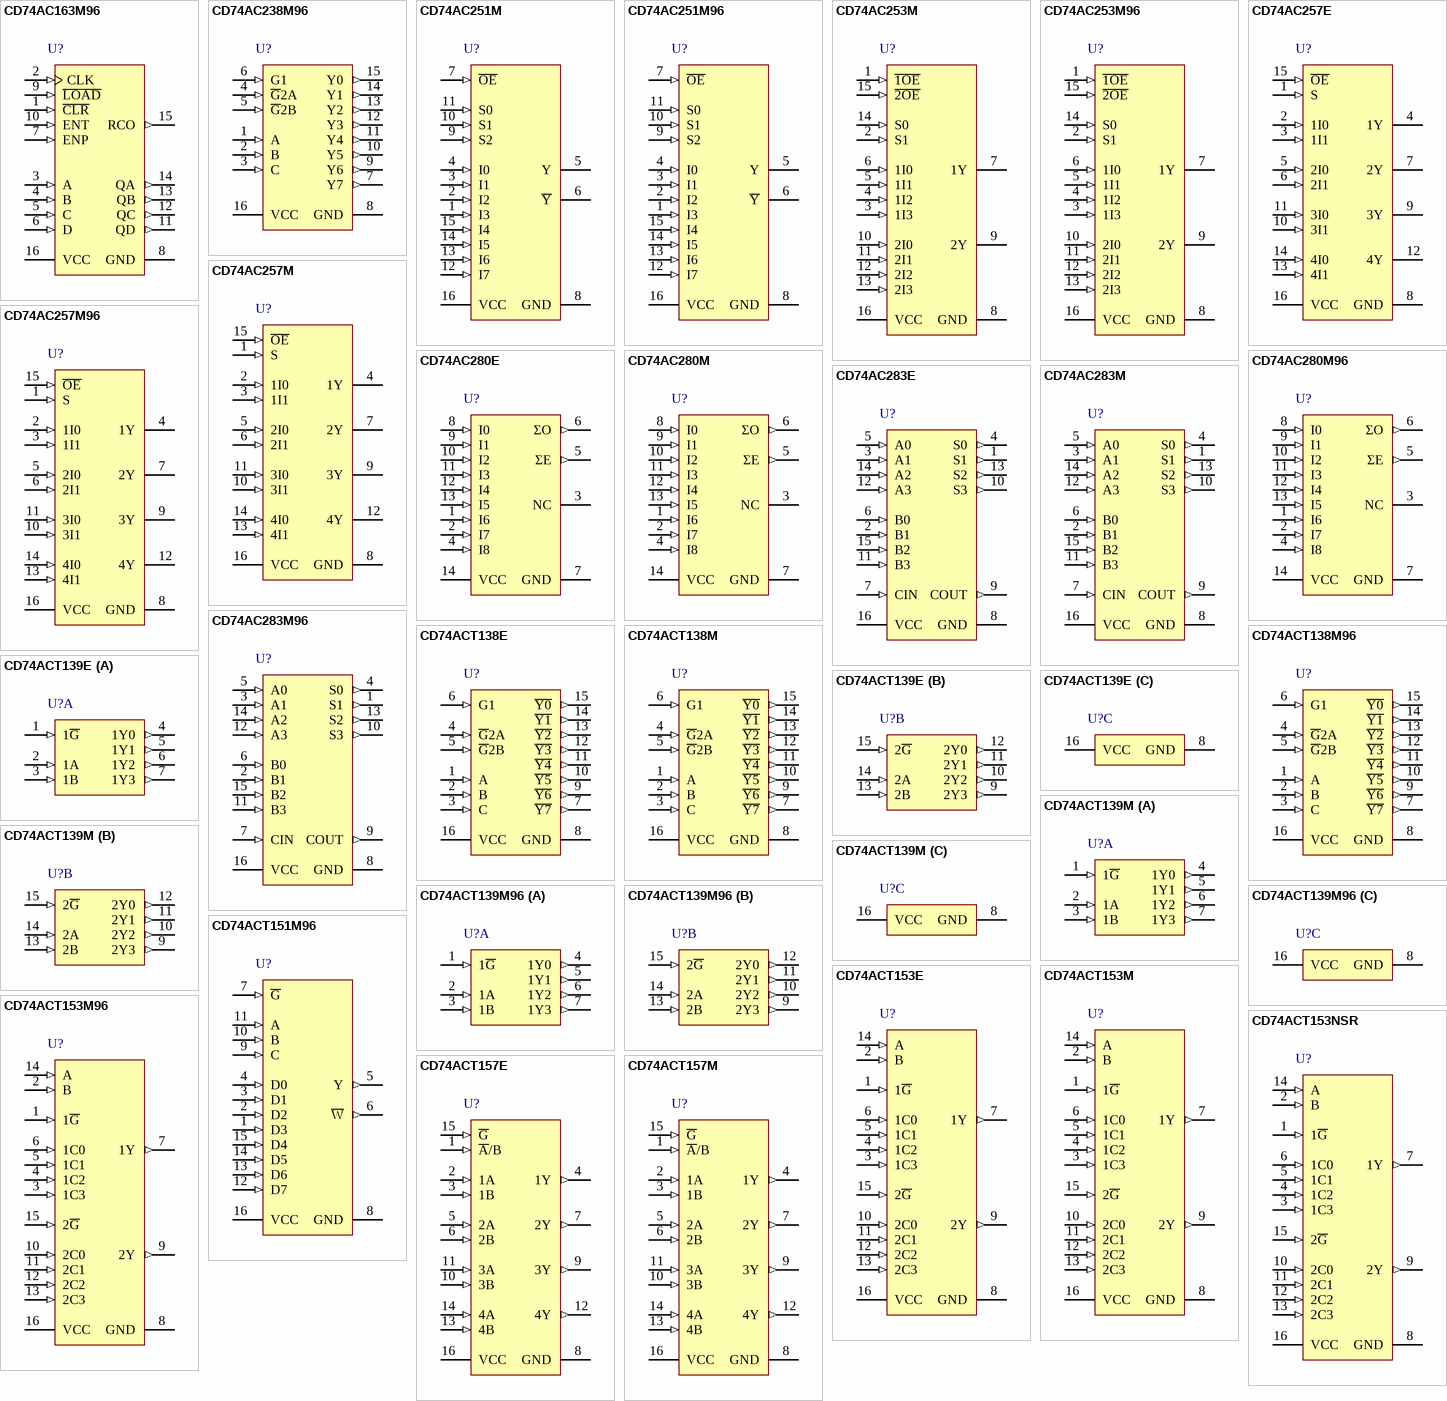
[diagram p7: symbols CD74AC163M96 to CD74ACT157M]

## CD74AC163M96
designator U?
Synchronous Presettable Binary Counters with Synchronous Reset, D0016A, LARGE T&R; Generic Part Number: CD74AC163; Manufacturer: Texas Instruments; PartNumber: CD74AC163M96; VCC(Min)(V): 1.5; VCC(Max)(V): 5.5; Output Type: CMOS; Inputs: 4; ICC @ Nom Voltage(Max)(mA): 0.08; Input Type: LVTTL/CMOS; F @ Nom Voltage(Max)(Mhz): 100; Rating: Catalog; Technology Family: AC; Voltage(Nom)(V): 3.3,5; Schmitt Trigger: No; Output Drive (IOL/IOH)(Max)(mA): 24/-24; tpd @ Nom Voltage(Max)(ns): 15; DatasheetVersion: SCHS299B; PackageReference: D0016A; Supplier 1: Mouser; Supplier Part Number 1: 595-CD74AC163M96; Supplier 2: Digi-Key; Supplier Part Number 2: 296-4234-2-ND; Supplier 3: Digi-Key; Supplier Part Number 3: 296-4234-1-ND; Supplier 4: Digi-Key; Supplier Part Number 4: 296-4234-6-ND; Function: Counter; Bits(#): 4; Operating Temperature Range(C): -55 to 125; Type: Binary; Code_JEDEC: MS-012 variation AC; ComponentLink1Description: Manufacturer URL; ComponentLink1URL: http://www.ti.com/; ComponentLink2Description: Datasheet; ComponentLink2URL: http://www.ti.com/lit/ds/symlink/cd74ac163.pdf; ComponentLink3Description: Package Specification; ComponentLink3URL: http://www.ti.com/lit/ml/mpds178g/mpds178g.pdf
footprint D0016A_N (SOIC, 16-Leads, Body 10x4mm, Pitch 1.27mm, IPC Medium Density)
footprint D0016A_M (SOIC, 16-Leads, Body 10x4mm, Pitch 1.27mm, IPC Low Density)
footprint D0016A_L (SOIC, 16-Leads, Body 10x4mm, Pitch 1.27mm, IPC High Density)
pins: 1 ~{CLR} (in), 2 CLK (in), 3 A (in), 4 B (in), 5 C (in), 6 D (in), 7 ENP (in), 8 GND (power), 9 ~{LOAD} (in), 10 ENT (in), 11 QD (out), 12 QC (out), 13 QB (out), 14 QA (out), 15 RCO (out), 16 VCC (power)

## CD74AC238M96
designator U?
3-Line to 8-Line Non-Inverting Decoder/Demultiplexer, D0016A, LARGE T&R; Generic Part Number: CD74AC238; Manufacturer: Texas Instruments; PartNumber: CD74AC238M96; VCC(Min)(V): 1.5; VCC(Max)(V): 5.5; Output Type: CMOS; ICC @ Nom Voltage(Max)(mA): 0.08; Input Type: LVTTL/CMOS; Bits(#): 8; F @ Nom Voltage(Max)(Mhz): 100; Configuration: 3：8; Channels(#): 1; Rating: Catalog; Technology Family: AC; Voltage(Nom)(V): 1.5, 3.3,5; Schmitt Trigger: No; Output Drive (IOL/IOH)(Max)(mA): 24/-24; tpd @ Nom Voltage(Max)(ns): 187,21,15; DatasheetVersion: SCHS331; PackageReference: D0016A; Supplier 1: Mouser; Supplier Part Number 1: 595-CD74AC238M96; Supplier 2: Digi-Key; Supplier Part Number 2: 296-4239-2-ND; Supplier 3: Digi-Key; Supplier Part Number 3: 296-4239-1-ND; Supplier 4: Digi-Key; Supplier Part Number 4: 296-4239-6-ND; Function: Decoder/Demultiplexer; Operating Temperature Range(C): -55 to 125; Type: Standard; Code_JEDEC: MS-012 variation AC; ComponentLink1Description: Manufacturer URL; ComponentLink1URL: http://www.ti.com/; ComponentLink2Description: Datasheet; ComponentLink2URL: http://www.ti.com/lit/ds/symlink/cd74ac238.pdf; ComponentLink3Description: Package Specification; ComponentLink3URL: http://www.ti.com/lit/ml/mpds178g/mpds178g.pdf
footprint D0016A_N (SOIC, 16-Leads, Body 10x4mm, Pitch 1.27mm, IPC Medium Density)
footprint D0016A_M (SOIC, 16-Leads, Body 10x4mm, Pitch 1.27mm, IPC Low Density)
footprint D0016A_L (SOIC, 16-Leads, Body 10x4mm, Pitch 1.27mm, IPC High Density)
pins: 1 A (in), 2 B (in), 3 C (in), 4 ~{G}2A (in), 5 ~{G}2B (in), 6 G1 (in), 7 Y7 (out), 8 GND (power), 9 Y6 (out), 10 Y5 (out), 11 Y4 (out), 12 Y3 (out), 13 Y2 (out), 14 Y1 (out), 15 Y0 (out), 16 VCC (power)

## CD74AC251M
designator U?
8-Input Multiplexer with 3-State Outputs, D0016A, TUBE; Generic Part Number: CD74AC251; Manufacturer: Texas Instruments; PartNumber: CD74AC251M; VCC(Min)(V): 1.5; VCC(Max)(V): 5.5; Output Type: CMOS; Function: Encoder/Multiplexer; ICC @ Nom Voltage(Max)(mA): 0.08; Input Type: LVTTL/CMOS; Bits(#): 8; F @ Nom Voltage(Max)(Mhz): 100; Configuration: 8：1; Channels(#): 1; Rating: Catalog; Technology Family: AC; Voltage(Nom)(V): 1.5, 3.3,5; Schmitt Trigger: No; Output Drive (IOL/IOH)(Max)(mA): 24/-24; tpd @ Nom Voltage(Max)(ns): 153,17.2,12.3; DatasheetVersion: SCHS246; PackageReference: D0016A; Supplier 1: Mouser; Supplier Part Number 1: 595-CD74AC251M; Supplier 2: Digi-Key; Supplier Part Number 2: 296-32961-5-ND; Operating Temperature Range(C): -55 to 125; Type: 3-State Output; Code_JEDEC: MS-012 variation AC; ComponentLink1Description: Manufacturer URL; ComponentLink1URL: http://www.ti.com/; ComponentLink2Description: Datasheet; ComponentLink2URL: http://www.ti.com/lit/ds/symlink/cd74ac251.pdf; ComponentLink3Description: Package Specification; ComponentLink3URL: http://www.ti.com/lit/ml/mpds178g/mpds178g.pdf
footprint D0016A_N (SOIC, 16-Leads, Body 10x4mm, Pitch 1.27mm, IPC Medium Density)
footprint D0016A_M (SOIC, 16-Leads, Body 10x4mm, Pitch 1.27mm, IPC Low Density)
footprint D0016A_L (SOIC, 16-Leads, Body 10x4mm, Pitch 1.27mm, IPC High Density)
pins: 1 I3 (in), 2 I2 (in), 3 I1 (in), 4 I0 (in), 5 Y (hiz), 6 ~{Y} (hiz), 7 ~{OE} (in), 8 GND (power), 9 S2 (in), 10 S1 (in), 11 S0 (in), 12 I7 (in), 13 I6 (in), 14 I5 (in), 15 I4 (in), 16 VCC (power)

## CD74AC251M96
designator U?
8-Input Multiplexer with 3-State Outputs, D0016A, LARGE T&R; Generic Part Number: CD74AC251; Manufacturer: Texas Instruments; PartNumber: CD74AC251M96; VCC(Min)(V): 1.5; VCC(Max)(V): 5.5; Output Type: CMOS; Function: Encoder/Multiplexer; ICC @ Nom Voltage(Max)(mA): 0.08; Input Type: LVTTL/CMOS; Bits(#): 8; F @ Nom Voltage(Max)(Mhz): 100; Configuration: 8：1; Channels(#): 1; Rating: Catalog; Technology Family: AC; Voltage(Nom)(V): 1.5, 3.3,5; Schmitt Trigger: No; Output Drive (IOL/IOH)(Max)(mA): 24/-24; tpd @ Nom Voltage(Max)(ns): 153,17.2,12.3; DatasheetVersion: SCHS246; PackageReference: D0016A; Supplier 1: Mouser; Supplier Part Number 1: 595-CD74AC251M96; Supplier 2: Digi-Key; Supplier Part Number 2: CD74AC251M96-ND; Operating Temperature Range(C): -55 to 125; Type: 3-State Output; Code_JEDEC: MS-012 variation AC; ComponentLink1Description: Manufacturer URL; ComponentLink1URL: http://www.ti.com/; ComponentLink2Description: Datasheet; ComponentLink2URL: http://www.ti.com/lit/ds/symlink/cd74ac251.pdf; ComponentLink3Description: Package Specification; ComponentLink3URL: http://www.ti.com/lit/ml/mpds178g/mpds178g.pdf
footprint D0016A_N (SOIC, 16-Leads, Body 10x4mm, Pitch 1.27mm, IPC Medium Density)
footprint D0016A_M (SOIC, 16-Leads, Body 10x4mm, Pitch 1.27mm, IPC Low Density)
footprint D0016A_L (SOIC, 16-Leads, Body 10x4mm, Pitch 1.27mm, IPC High Density)
pins: 1 I3 (in), 2 I2 (in), 3 I1 (in), 4 I0 (in), 5 Y (hiz), 6 ~{Y} (hiz), 7 ~{OE} (in), 8 GND (power), 9 S2 (in), 10 S1 (in), 11 S0 (in), 12 I7 (in), 13 I6 (in), 14 I5 (in), 15 I4 (in), 16 VCC (power)

## CD74AC253M
designator U?
Dual 4-Input Multiplexers with 3-State Outputs, D0016A, TUBE; Generic Part Number: CD74AC253; Manufacturer: Texas Instruments; PartNumber: CD74AC253M; VCC(Min)(V): 1.5; VCC(Max)(V): 5.5; Output Type: CMOS; Function: Encoder/Multiplexer; ICC @ Nom Voltage(Max)(mA): 0.08; Input Type: LVTTL/CMOS; Bits(#): 4; F @ Nom Voltage(Max)(Mhz): 100; Configuration: 4：1; Channels(#): 2; Rating: Catalog; Technology Family: AC; Voltage(Nom)(V): 1.5, 3.3,5; Schmitt Trigger: No; Output Drive (IOL/IOH)(Max)(mA): 24/-24; tpd @ Nom Voltage(Max)(ns): 227,25,18.2; DatasheetVersion: SCHS247A; PackageReference: D0016A; Supplier 1: Mouser; Supplier Part Number 1: 595-CD74AC253M; Supplier 2: Digi-Key; Supplier Part Number 2: 296-4242-5-ND; Operating Temperature Range(C): -55 to 125; Type: 3-State Output; Code_JEDEC: MS-012 variation AC; ComponentLink1Description: Manufacturer URL; ComponentLink1URL: http://www.ti.com/; ComponentLink2Description: Datasheet; ComponentLink2URL: http://www.ti.com/lit/ds/symlink/cd74ac253.pdf; ComponentLink3Description: Package Specification; ComponentLink3URL: http://www.ti.com/lit/ml/mpds178g/mpds178g.pdf
footprint D0016A_N (SOIC, 16-Leads, Body 10x4mm, Pitch 1.27mm, IPC Medium Density)
footprint D0016A_M (SOIC, 16-Leads, Body 10x4mm, Pitch 1.27mm, IPC Low Density)
footprint D0016A_L (SOIC, 16-Leads, Body 10x4mm, Pitch 1.27mm, IPC High Density)
pins: 1 ~{1OE} (in), 2 S1 (in), 3 1I3 (in), 4 1I2 (in), 5 1I1 (in), 6 1I0 (in), 7 1Y (hiz), 8 GND (power), 9 2Y (hiz), 10 2I0 (in), 11 2I1 (in), 12 2I2 (in), 13 2I3 (in), 14 S0 (in), 15 ~{2OE} (in), 16 VCC (power)

## CD74AC253M96
designator U?
Dual 4-Input Multiplexers with 3-State Outputs, D0016A, LARGE T&R; Generic Part Number: CD74AC253; Manufacturer: Texas Instruments; PartNumber: CD74AC253M96; VCC(Min)(V): 1.5; VCC(Max)(V): 5.5; Output Type: CMOS; Function: Encoder/Multiplexer; ICC @ Nom Voltage(Max)(mA): 0.08; Input Type: LVTTL/CMOS; Bits(#): 4; F @ Nom Voltage(Max)(Mhz): 100; Configuration: 4：1; Channels(#): 2; Rating: Catalog; Technology Family: AC; Voltage(Nom)(V): 1.5, 3.3,5; Schmitt Trigger: No; Output Drive (IOL/IOH)(Max)(mA): 24/-24; tpd @ Nom Voltage(Max)(ns): 227,25,18.2; DatasheetVersion: SCHS247A; PackageReference: D0016A; Supplier 1: Mouser; Supplier Part Number 1: 595-CD74AC253M96; Supplier 2: Digi-Key; Supplier Part Number 2: CD74AC253M96-ND; Operating Temperature Range(C): -55 to 125; Type: 3-State Output; Code_JEDEC: MS-012 variation AC; ComponentLink1Description: Manufacturer URL; ComponentLink1URL: http://www.ti.com/; ComponentLink2Description: Datasheet; ComponentLink2URL: http://www.ti.com/lit/ds/symlink/cd74ac253.pdf; ComponentLink3Description: Package Specification; ComponentLink3URL: http://www.ti.com/lit/ml/mpds178g/mpds178g.pdf
footprint D0016A_N (SOIC, 16-Leads, Body 10x4mm, Pitch 1.27mm, IPC Medium Density)
footprint D0016A_M (SOIC, 16-Leads, Body 10x4mm, Pitch 1.27mm, IPC Low Density)
footprint D0016A_L (SOIC, 16-Leads, Body 10x4mm, Pitch 1.27mm, IPC High Density)
pins: 1 ~{1OE} (in), 2 S1 (in), 3 1I3 (in), 4 1I2 (in), 5 1I1 (in), 6 1I0 (in), 7 1Y (hiz), 8 GND (power), 9 2Y (hiz), 10 2I0 (in), 11 2I1 (in), 12 2I2 (in), 13 2I3 (in), 14 S0 (in), 15 ~{2OE} (in), 16 VCC (power)

## CD74AC257E
designator U?
Quad 2-Input Non-Inverting Multiplexers with 3-State Outputs, N0016A, TUBE; Generic Part Number: CD74AC257; Manufacturer: Texas Instruments; PartNumber: CD74AC257E; VCC(Min)(V): 1.5; VCC(Max)(V): 5.5; Output Type: CMOS; Function: Encoder/Multiplexer; ICC @ Nom Voltage(Max)(mA): 0.08; Input Type: LVTTL/CMOS; Bits(#): 2; F @ Nom Voltage(Max)(Mhz): 100; Configuration: 2：1; Channels(#): 4; Rating: Catalog; Technology Family: AC; Voltage(Nom)(V): 1.5, 3.3,5; Schmitt Trigger: No; Output Drive (IOL/IOH)(Max)(mA): 24/-24; tpd @ Nom Voltage(Max)(ns): 106,11.8,8.5; DatasheetVersion: SCHS248A; PackageReference: N0016A; Supplier 1: Mouser; Supplier Part Number 1: 595-CD74AC257E; Supplier 2: Digi-Key; Supplier Part Number 2: CD74AC257E-ND; Operating Temperature Range(C): -55 to 125; Type: 3-State Output; Code_JEDEC: MS-001; ComponentLink1Description: Manufacturer URL; ComponentLink1URL: http://www.ti.com/; ComponentLink2Description: Datasheet; ComponentLink2URL: http://www.ti.com/lit/ds/symlink/cd74ac257.pdf; ComponentLink3Description: Package Specification; ComponentLink3URL: http://www.ti.com/lit/ml/mpdi002c/mpdi002c.pdf
footprint N0016A (DIP, 16-Leads, Body 19.7x6.6mm, Pitch 2.54mm)
pins: 1 S (in), 2 1I0 (in), 3 1I1 (in), 4 1Y (hiz), 5 2I0 (in), 6 2I1 (in), 7 2Y (hiz), 8 GND (power), 9 3Y (hiz), 10 3I1 (in), 11 3I0 (in), 12 4Y (hiz), 13 4I1 (in), 14 4I0 (in), 15 ~{OE} (in), 16 VCC (power)